# EAGLE library part MCP3208 (library AD convertor)
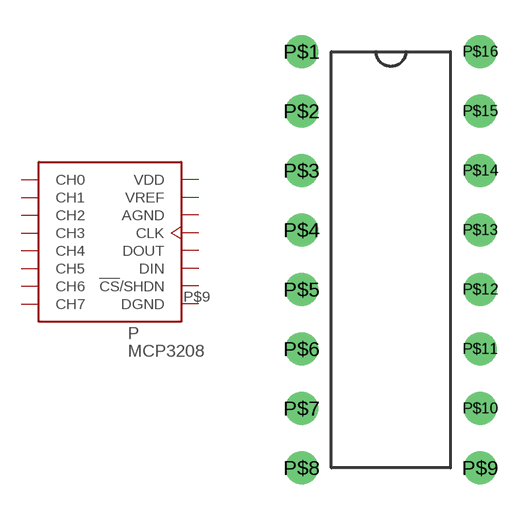
[diagram p2: symbol with the pads of 16-DIP; footprint 16-DIP]

Designator prefix P

## MCP3208DIP  [16-DIP]
P$1  CH0  in
P$2  CH1  in
P$3  CH2  in
P$4  CH3  in
P$5  CH4  in
P$6  CH5  in
P$7  CH6  in
P$8  CH7  in
P$9  DGND  pwr
P$10  !CS!/SHDN  sup
P$11  DIN  in
P$12  DOUT  out
P$13  CLK  in
P$14  AGND  pwr
P$15  VREF  pwr
P$16  VDD  pwr

## Footprint 16-DIP (pad centres in mm)
drill 0.9: P$1 -5.08,10.16; P$2 -5.08,7.62; P$3 -5.08,5.08; P$4 -5.08,2.54; P$5 -5.08,0; P$6 -5.08,-2.54; P$7 -5.08,-5.08; P$8 -5.08,-7.62; P$9 2.54,-7.62; P$10 2.54,-5.08; P$11 2.54,-2.54; P$12 2.54,0; P$13 2.54,2.54; P$14 2.54,5.08; P$15 2.54,7.62; P$16 2.54,10.16